# Altium footprint library SK68XX.PcbLib: 1 footprints
Each footprint in its own frame and in the unit in brackets; x right, y up, seen from the top. Pads: shape width x height; smd on the part's side, far side on the other; paste and mask are expansions set on the pad; w line width, h text height; cw(c..) or ccw(c..) is an arc to the next point about the centre after c.
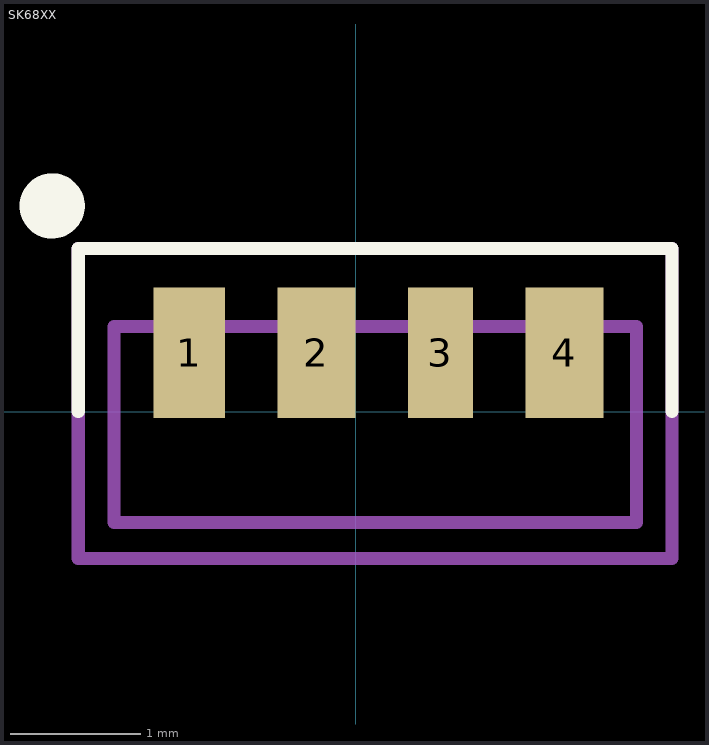
[diagram p0: the footprint, top view; thin cyan lines are the x and y axes]

## SK68XX [mm] "Addressible RGB LED"
height 2
pads (4):
  rect 0.55x1 smd: 1(-1.275,0.45)
  rect 0.6x1 smd: 2(-0.3,0.45) 4(1.6,0.45)
  rect 0.5x1 smd: 3(0.65,0.45)
Top Overlay:
  circle w0.25: c-2.325,1.575 r0.125
  lines w0.1: -2.125,0 -2.125,1.25 2.425,1.25 2.425,0
Mechanical 1:
  lines w0.1: -1.85,-0.85 2.15,-0.85 2.15,0.65 -1.85,0.65 -1.85,-0.85
Mechanical 15:
  lines w0.1: -2.125,-1.125 -2.125,1.25 2.425,1.25 2.425,-1.125 -2.125,-1.125
3D body: height 2, standoff 0, extent -1.85,-0.849 2.15,0.649